# Altium footprint library TSSOP-Thermal.PcbLib: 1 footprints
Each footprint in its own frame and in the unit in brackets; x right, y up, seen from the top. Pads: shape width x height; smd on the part's side, far side on the other; paste and mask are expansions set on the pad; w line width, h text height; cw(c..) or ccw(c..) is an arc to the next point about the centre after c.
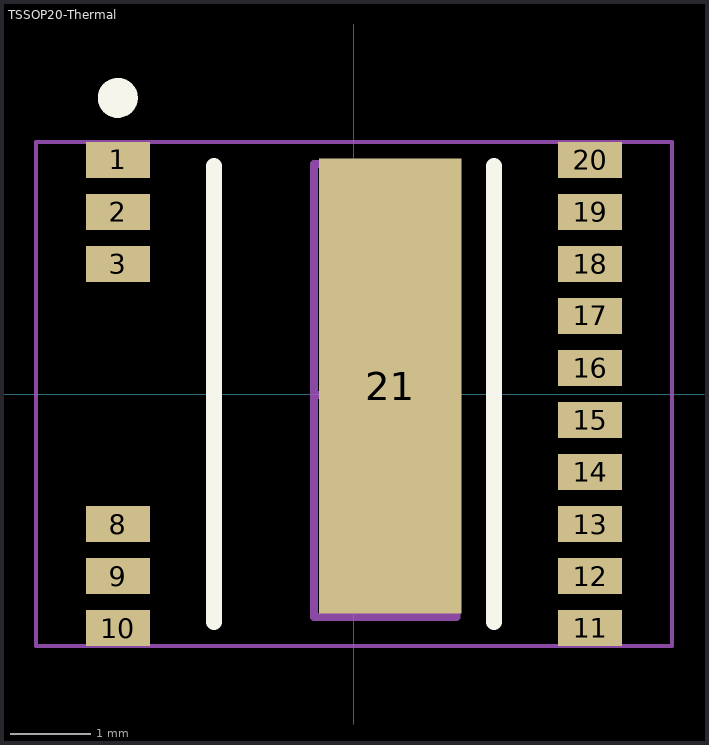
[diagram p0: the footprint, top view; thin cyan lines are the x and y axes]

## TSSOP20-Thermal [mm] "Standard TSSOP20 package with an exposed thermal pad underneath"
height 1.2
pads (17):
  rect 0.8x0.45 smd: 1(-2.95,2.925) 2(-2.95,2.275) 3(-2.95,1.625) 8(-2.95,-1.625) 9(-2.95,-2.275) 10(-2.95,-2.925) 11(2.95,-2.925) 12(2.95,-2.275) 13(2.95,-1.625) 14(2.95,-0.975) 15(2.95,-0.325) 16(2.95,0.325) 17(2.95,0.975) 18(2.95,1.625) 19(2.95,2.275) 20(2.95,2.925)
  rect 1.78x5.68 smd: 21(0.45,0.1)
Top Overlay:
  circle w0.25: c-2.95,3.7 r0.125
  lines w0.2: -1.75,-2.85 -1.75,2.85 ; 1.75,-2.85 1.75,2.85
Mechanical 13:
  lines w0.1: -0.5,-2.784 1.28,-2.784 1.28,2.871 -0.5,2.871 -0.5,-2.784
Mechanical 15:
  lines w0.05: -3.975,-3.15 3.975,-3.15 3.975,3.15 -3.975,3.15 -3.975,-3.15
  lines w0.1: -0.5,-0.011 -0.25,-0.011 0.25,-0.011 0.5,-0.011 ; 0,-0.511 0,0.489